# EAGLE library part IR11662SPBF (library International_Rectifier_By_element14_Batch_1)
ADVANCED SMART RECTIFIER CONTROL IC
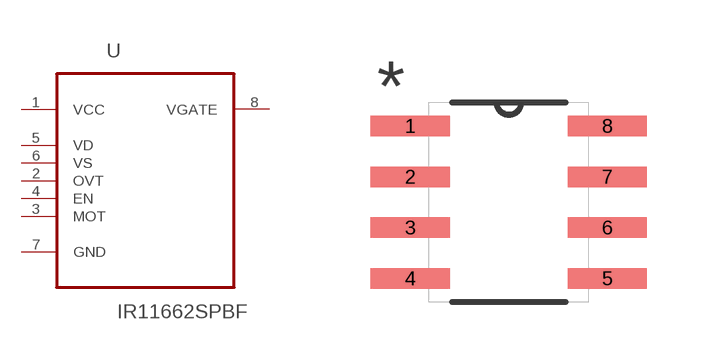
[diagram p25: symbol with the pads of SOIC127P600X175-8N; footprint SOIC127P600X175-8N]

Designator prefix U

## IR11662SPBF (MPN: IR11662SPBF; OC_FARNELL: 1866068; OC_NEWARK: 39T4530; PACKAGE: SOIC-8; SUPPLIER: INTERNATIONAL RECTIFIER)  [SOIC127P600X175-8N]
1  VCC  pwr
2  OVT  in
3  MOT  in
4  EN  in
5  VD  in
6  VS  in
7  GND  pas
8  VGATE  out

## Footprint SOIC127P600X175-8N (pad centres in mm)
smd 1.981 x 0.508: 1 -2.464,1.905; 2 -2.464,0.635; 3 -2.464,-0.635; 4 -2.464,-1.905; 5 2.464,-1.905; 6 2.464,-0.635; 7 2.464,0.635; 8 2.464,1.905